# Altium footprint library OffTheClock.PcbLib: 26 footprints (part 1 of 2)
Each footprint in its own frame and in the unit in brackets; x right, y up, seen from the top. Pads: shape width x height; smd on the part's side, far side on the other; paste and mask are expansions set on the pad; w line width, h text height; cw(c..) or ccw(c..) is an arc to the next point about the centre after c.
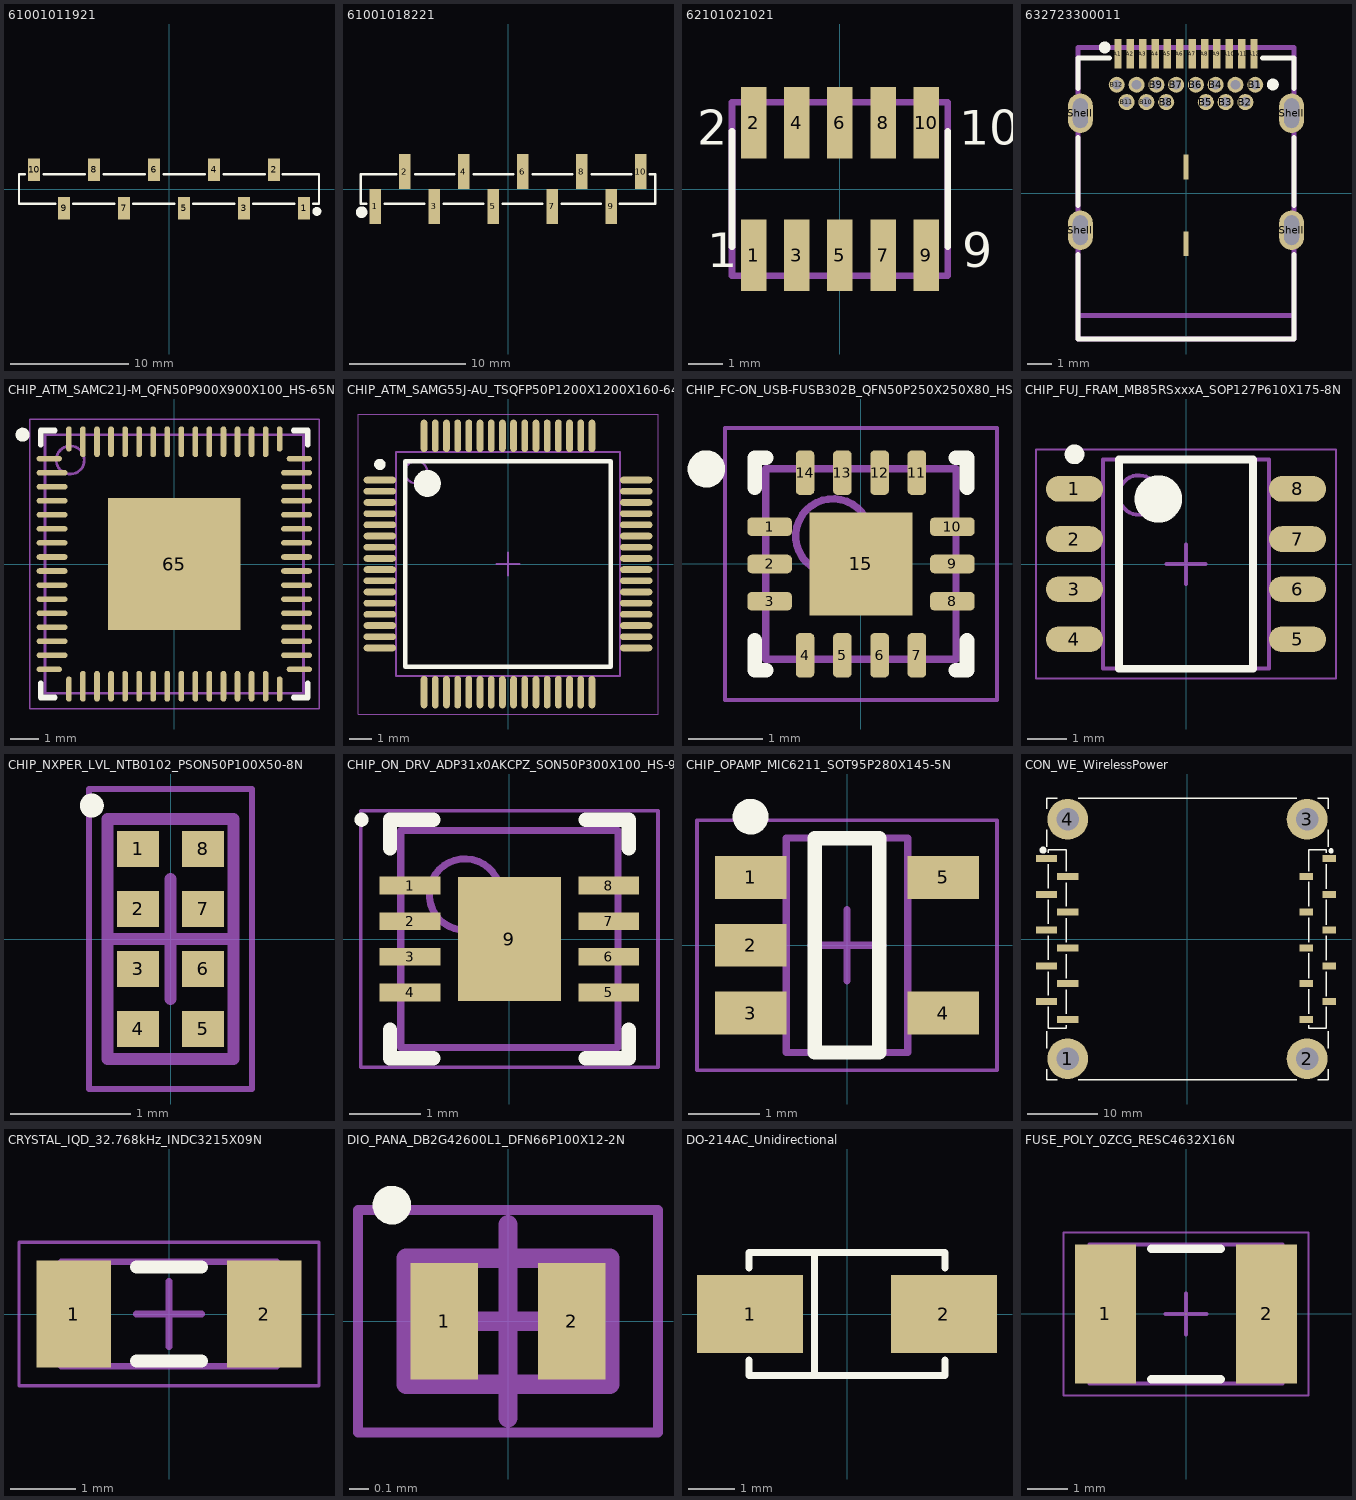
[diagram p0: the footprints below, top view; thin cyan lines are the x and y axes]

## 61001011921 [mm] "10 pins, 1 row, straight, Type 1, gold plating"
height 7.5
pads (10):
  rect 1x1.91 smd: 1(11.43,-1.645) 2(8.89,1.645) 3(6.35,-1.645) 4(3.81,1.645) 5(1.27,-1.645) 6(-1.27,1.645) 7(-3.81,-1.645) 8(-6.35,1.645) 9(-8.89,-1.645) 10(-11.43,1.645)
Top Overlay:
  circle w0.5: c12.52,-1.9 r0.122
  lines w0.2: -12.22,1.25 -12.7,1.25 -12.7,-1.25 -9.62,-1.25 ; -10.62,1.25 -7.12,1.25 ; -8.12,-1.25 -4.62,-1.25 ; -5.54,1.25 -2.04,1.25 ; -3.04,-1.25 0.46,-1.25 ; -0.46,1.25 3.04,1.25 ; 2.04,-1.25 5.54,-1.25 ; 4.62,1.25 8.12,1.25 ; 7.12,-1.25 10.62,-1.25 ; 9.62,1.25 12.7,1.25 12.7,-1.25 12.22,-1.25
3D body "61001011921.stp": height 7.46, standoff -0.04, extent -12.95,-2.025 12.95,2.025

## 61001018221 [mm] "SMT, 10 pins, 1 row, straight, Type 1, gold plating"
height 8.54
pads (10):
  rect 1x3 smd: 1(-11.43,-1.5) 2(-8.89,1.5) 3(-6.35,-1.5) 4(-3.81,1.5) 5(-1.27,-1.5) 6(1.27,1.5) 7(3.81,-1.5) 8(6.35,1.5) 9(8.89,-1.5) 10(11.43,1.5)
Top Overlay:
  circle w0.6: c-12.62,-2 r0.2
  lines w0.2: -12.22,-1.27 -12.7,-1.27 -12.7,1.27 -9.62,1.27 ; -10.62,-1.27 -7.22,-1.27 ; -8.02,1.27 -4.62,1.27 ; -5.54,-1.27 -2.14,-1.27 ; -2.94,1.27 0.46,1.27 ; -0.46,-1.27 2.94,-1.27 ; 2.14,1.27 5.54,1.27 ; 4.62,-1.27 8.02,-1.27 ; 7.22,1.27 10.62,1.27 ; 9.62,-1.27 12.7,-1.27 12.7,1.27 12.22,1.27
3D body "61001018221.stp": height 9.29, standoff -0.04, extent -12.7,-2.5 12.7,2.5

## 62101021021 [mm] "SMD Dual Pin Header, H=3.80mm, 10p"
height 5.9
pads (10):
  rect 0.75x2.1 smd: 1(-2.54,-1.95) 2(-2.54,1.95) 3(-1.27,-1.95) 4(-1.27,1.95) 5(0,-1.95) 6(0,1.95) 7(1.27,-1.95) 8(1.27,1.95) 9(2.54,-1.95) 10(2.54,1.95)
Top Overlay:
  lines w0.2: -3.175,-1.7 -3.175,1.7 ; 3.175,-1.7 3.175,1.7
  text "10" at 3.505,1.3 h1.02
  text "9" at 3.605,-2.3 h1.02
  text "2" at -4.205,1.3 h1.02
  text "1" at -3.905,-2.3 h1.02
Mechanical 13:
  lines w0.2: -3.175,-2.55 3.175,-2.55 3.175,2.55 -3.175,2.55 -3.175,-2.55
3D body "62101021021.stp": height 5.9, standoff -0.01, extent -3.175,-2.55 3.175,2.45

## 632723300011 [mm] "USB 3.1 Type C Receptacle Horizontal THR"
height 2.96
pads (32):
  rect 0.3x1.2 smd: A1(-2.75,5.635) A2(-2.25,5.635) A3(-1.75,5.635) A4(-1.25,5.635) A5(-0.75,5.635) A6(-0.25,5.635) A7(0.25,5.635) A8(0.75,5.635) A9(1.25,5.635) A10(1.75,5.635) A11(2.25,5.635) A12(2.75,5.635)
  round 0.65 hole 0.4: B1(2.8,4.385) B2(2.4,3.685) B3(1.6,3.685) B4(1.2,4.385) B5(0.8,3.685) B6(0.4,4.385) B7(-0.4,4.385) B8(-0.8,3.685) B9(-1.2,4.385) B10(-1.6,3.685) B11(-2.4,3.685) B12(-2.8,4.385) Shell(-2,4.385) Shell(2,4.385)
  oval 1x1.6 hole 0.6 slot 1.2 at 90 deg: Shell(-4.27,-1.495) Shell(-4.27,3.235) Shell(4.27,-1.495) Shell(4.27,3.235)
  rect 0.2x1 smd: ""(0,-2.045) ""(0,1.055)
Top Overlay:
  circle w0.25: c3.512,4.395 r0.114
  circle w0.25: c-3.288,5.895 r0.114
  lines w0.2: -4.37,-2.485 -4.37,-5.895 4.37,-5.895 4.37,-2.485 ; -4.37,-0.495 -4.37,2.245 ; -4.37,4.225 -4.37,5.465 -3.1,5.465 ; 3.1,5.465 4.37,5.465 4.37,4.225 ; 4.37,-0.495 4.37,2.245
Mechanical 13:
  lines w0.2: -4.37,-5.895 -4.37,5.895 4.37,5.895 4.37,-5.895 -4.37,-5.895
Mechanical 15:
  lines w0.2: -4.37,-4.945 4.37,-4.945
3D body "632723300011.stp": height 3.05, standoff -1.81, extent -4.37,-5.895 4.37,5.899

## CHIP_ATM_SAMC21J-M_QFN50P900X900X100_HS-65N [mm] "QFN, 64-Leads, Body 9.00x9.00mm, Pitch 0.50mm, Thermal Pad 4.70x4.70mm, IPC Medium Density"
height 1
pads (65):
  oval 0.9x0.2 smd: 1(-4.45,3.75) 16(-4.45,-3.75) 33(4.45,-3.75) 48(4.45,3.75)
  oval 1.1x0.2 smd: 2(-4.35,3.25) 3(-4.35,2.75) 4(-4.35,2.25) 5(-4.35,1.75) 6(-4.35,1.25) 7(-4.35,0.75) 8(-4.35,0.25) 9(-4.35,-0.25) 10(-4.35,-0.75) 11(-4.35,-1.25) 12(-4.35,-1.75) 13(-4.35,-2.25) 14(-4.35,-2.75) 15(-4.35,-3.25) 34(4.35,-3.25) 35(4.35,-2.75) 36(4.35,-2.25) 37(4.35,-1.75) 38(4.35,-1.25) 39(4.35,-0.75) 40(4.35,-0.25) 41(4.35,0.25) 42(4.35,0.75) 43(4.35,1.25) 44(4.35,1.75) 45(4.35,2.25) 46(4.35,2.75) 47(4.35,3.25)
  oval 0.2x0.9 smd: 17(-3.75,-4.45) 32(3.75,-4.45) 49(3.75,4.45) 64(-3.75,4.45)
  oval 0.2x1.1 smd: 18(-3.25,-4.35) 19(-2.75,-4.35) 20(-2.25,-4.35) 21(-1.75,-4.35) 22(-1.25,-4.35) 23(-0.75,-4.35) 24(-0.25,-4.35) 25(0.25,-4.35) 26(0.75,-4.35) 27(1.25,-4.35) 28(1.75,-4.35) 29(2.25,-4.35) 30(2.75,-4.35) 31(3.25,-4.35) 50(3.25,4.35) 51(2.75,4.35) 52(2.25,4.35) 53(1.75,4.35) 54(1.25,4.35) 55(0.75,4.35) 56(0.25,4.35) 57(-0.25,4.35) 58(-0.75,4.35) 59(-1.25,4.35) 60(-1.75,4.35) 61(-2.25,4.35) 62(-2.75,4.35) 63(-3.25,4.35)
  rect 4.7x4.7 smd: 65(0,0)
Top Overlay:
  circle w0.25: c-5.4,4.6 r0.125
  lines w0.2: -4.75,-4.25 -4.75,-4.75 -4.25,-4.75 ; -4.75,4.25 -4.75,4.75 -4.25,4.75 ; 4.25,-4.75 4.75,-4.75 4.75,-4.25 ; 4.25,4.75 4.75,4.75 4.75,4.25
Mechanical 13:
  circle w0.1: c-3.7,3.7 r0.5
  lines w0.1: -4.6,-4.6 4.6,-4.6 4.6,4.6 -4.6,4.6 -4.6,-4.6
Mechanical 15:
  lines w0.05: -5.15,-5.15 5.15,-5.15 5.15,5.15 -5.15,5.15 -5.15,-5.15
  lines w0.1: -0.5,0 0.5,0 ; 0,-0.5 0,0.5
3D body: height 1, standoff 0.01, extent -4.6,-4.6 4.6,4.6

## CHIP_ATM_SAMG55J-AU_TSQFP50P1200X1200X160-64N [mm] "TSQFP, 64-Leads, Body 10.00x10.00mm, Pitch 0.50mm, IPC Medium Density"
height 1.6
pads (64):
  oval 1.45x0.3 smd: 1(-5.725,3.75) 2(-5.725,3.25) 3(-5.725,2.75) 4(-5.725,2.25) 5(-5.725,1.75) 6(-5.725,1.25) 7(-5.725,0.75) 8(-5.725,0.25) 9(-5.725,-0.25) 10(-5.725,-0.75) 11(-5.725,-1.25) 12(-5.725,-1.75) 13(-5.725,-2.25) 14(-5.725,-2.75) 15(-5.725,-3.25) 16(-5.725,-3.75) 33(5.725,-3.75) 34(5.725,-3.25) 35(5.725,-2.75) 36(5.725,-2.25) 37(5.725,-1.75) 38(5.725,-1.25) 39(5.725,-0.75) 40(5.725,-0.25) 41(5.725,0.25) 42(5.725,0.75) 43(5.725,1.25) 44(5.725,1.75) 45(5.725,2.25) 46(5.725,2.75) 47(5.725,3.25) 48(5.725,3.75)
  oval 0.3x1.45 smd: 17(-3.75,-5.725) 18(-3.25,-5.725) 19(-2.75,-5.725) 20(-2.25,-5.725) 21(-1.75,-5.725) 22(-1.25,-5.725) 23(-0.75,-5.725) 24(-0.25,-5.725) 25(0.25,-5.725) 26(0.75,-5.725) 27(1.25,-5.725) 28(1.75,-5.725) 29(2.25,-5.725) 30(2.75,-5.725) 31(3.25,-5.725) 32(3.75,-5.725) 49(3.75,5.725) 50(3.25,5.725) 51(2.75,5.725) 52(2.25,5.725) 53(1.75,5.725) 54(1.25,5.725) 55(0.75,5.725) 56(0.25,5.725) 57(-0.25,5.725) 58(-0.75,5.725) 59(-1.25,5.725) 60(-1.75,5.725) 61(-2.25,5.725) 62(-2.75,5.725) 63(-3.25,5.725) 64(-3.75,5.725)
Top Overlay:
  circle w0.6: c-3.6,3.6 r0.3
  circle w0.25: c-5.725,4.45 r0.125
  lines w0.2: -4.6,-4.6 4.6,-4.6 4.6,4.6 -4.6,4.6 -4.6,-4.6
Mechanical 13:
  circle w0.1: c-4.1,4.1 r0.5
  lines w0.1: -5,-5 5,-5 5,5 -5,5 -5,-5
Mechanical 15:
  lines w0.05: -6.7,-6.7 6.7,-6.7 6.7,6.7 -6.7,6.7 -6.7,-6.7
  lines w0.1: -0.5,0 0.5,0 ; 0,-0.5 0,0.5
3D body: height 1.6, standoff 0.05, extent -5,-5 5,5

## CHIP_FC-ON_USB-FUSB302B_QFN50P250X250X80_HS-15N [mm] "QFN, 14-Leads, Body 2.50x2.50mm, Pitch 0.50mm, Thermal Pad 1.38x1.38mm, IPC Medium Density"
height 0.8
pads (15):
  rrect50% 0.6x0.25 smd: 1(-1.225,0.5) 2(-1.225,0) 3(-1.225,-0.5) 8(1.225,-0.5) 9(1.225,0) 10(1.225,0.5)
  rrect50% 0.25x0.6 smd: 4(-0.75,-1.225) 5(-0.25,-1.225) 6(0.25,-1.225) 7(0.75,-1.225) 11(0.75,1.225) 12(0.25,1.225) 13(-0.25,1.225) 14(-0.75,1.225)
  rect 1.38x1.38 smd: 15(0,0)
Top Overlay:
  circle w0.25: c-2.075,1.275 r0.125
  lines w0.2: -1.425,-1.025 -1.425,-1.425 -1.275,-1.425 ; -1.425,1.025 -1.425,1.425 -1.275,1.425 ; 1.275,-1.425 1.425,-1.425 1.425,-1.025 ; 1.275,1.425 1.425,1.425 1.425,1.025
Mechanical 13:
  circle w0.1: c-0.375,0.375 r0.5
  lines w0.1: -1.275,-1.275 -1.275,1.275 1.275,1.275 1.275,-1.275 -1.275,-1.275
Mechanical 15:
  lines w0.05: -1.825,-1.825 -1.825,1.825 1.825,1.825 1.825,-1.825 -1.825,-1.825
  lines w0.1: -0.5,0 0.5,0 ; 0,-0.5 0,0.5
3D body: height 0.8, standoff 0.01, extent -1.275,-1.275 1.275,1.275

## CHIP_FUJ_FRAM_MB85RSxxxA_SOP127P610X175-8N [mm] "SOP, 8-Leads, Body 5.07x3.95mm, Pitch 1.27mm, IPC Medium Density"
height 1.75
pads (8):
  oval 1.45x0.65 smd: 1(-2.825,1.905) 2(-2.825,0.635) 3(-2.825,-0.635) 4(-2.825,-1.905) 5(2.825,-1.905) 6(2.825,-0.635) 7(2.825,0.635) 8(2.825,1.905)
Top Overlay:
  circle w0.6: c-0.7,1.65 r0.3
  circle w0.25: c-2.825,2.78 r0.125
  lines w0.2: -1.7,-2.65 1.7,-2.65 1.7,2.65 -1.7,2.65 -1.7,-2.65
Mechanical 13:
  circle w0.1: c-1.2,1.75 r0.5
  lines w0.1: -2.1,-2.65 2.1,-2.65 2.1,2.65 -2.1,2.65 -2.1,-2.65
Mechanical 15:
  lines w0.05: -3.8,-2.9 3.8,-2.9 3.8,2.9 -3.8,2.9 -3.8,-2.9
  lines w0.1: -0.5,0 0.5,0 ; 0,-0.5 0,0.5
3D body: height 1.75, standoff 0.1, extent -2.1,-2.65 2.1,2.65

## CHIP_NXPER_LVL_NTB0102_PSON50P100X50-8N [mm] "PSON, 8-Leads, Body 1.95x1.00mm, Pitch 0.50mm, IPC Medium Density"
height 0.5
pads (8):
  rect 0.35x0.3 smd: 1(-0.27,0.75) 2(-0.27,0.25) 3(-0.27,-0.25) 4(-0.27,-0.75) 5(0.27,-0.75) 6(0.27,-0.25) 7(0.27,0.25) 8(0.27,0.75)
Top Overlay:
  circle w0.1: c-0.657,1.112 r0.05
Mechanical 13:
  lines w0.1: -0.525,-1 0.525,-1 0.525,1 -0.525,1 -0.525,-1
Mechanical 15:
  lines w0.05: -0.68,-1.25 0.68,-1.25 0.68,1.25 -0.68,1.25 -0.68,-1.25
  lines w0.1: -0.5,0 0.5,0 ; 0,-0.5 0,0.5
3D body: height 0.5, standoff 0.03, extent -0.525,-1 0.525,1

## CHIP_ON_DRV_ADP31x0AKCPZ_SON50P300X100_HS-9N [mm] "SON, 8-Leads, Body 3.00x3.00mm, Pitch 0.50mm, Thermal Pad 1.74x1.45mm, IPC Medium Density"
height 1
pads (9):
  rect 0.85x0.25 smd: 1(-1.395,0.75) 2(-1.395,0.25) 3(-1.395,-0.25) 4(-1.395,-0.75) 5(1.395,-0.75) 6(1.395,-0.25) 7(1.395,0.25) 8(1.395,0.75)
  rect 1.45x1.74 smd: 9(0,0)
Top Overlay:
  circle w0.1: c-2.075,1.675 r0.05
  lines w0.2: -1.675,-1.275 -1.675,-1.675 -1.07,-1.675 ; -1.675,1.275 -1.675,1.675 -1.07,1.675 ; 1.07,-1.675 1.675,-1.675 1.675,-1.275 ; 1.07,1.675 1.675,1.675 1.675,1.275
Mechanical 13:
  circle w0.1: c-0.625,0.625 r0.5
  lines w0.1: -1.525,-1.525 -1.525,1.525 1.525,1.525 1.525,-1.525 -1.525,-1.525
Mechanical 15:
  lines w0.05: -2.085,-1.8 -2.085,1.8 2.085,1.8 2.085,-1.8 -2.085,-1.8
  lines w0.1: -0.5,0 0.5,0 ; 0,-0.5 0,0.5
3D body: height 1, standoff 0.01, extent -1.525,-1.525 1.525,1.525

## CHIP_OPAMP_MIC6211_SOT95P280X145-5N [mm] "SOT23, 5-Leads, Body 2.90x2.80mm, Pitch 0.95mm, IPC Medium Density"
height 1.45
pads (5):
  rect 1x0.6 smd: 1(-1.35,0.95) 2(-1.35,0) 3(-1.35,-0.95) 4(1.35,-0.95) 5(1.35,0.95)
Top Overlay:
  circle w0.25: c-1.35,1.8 r0.125
  lines w0.2: -0.45,-1.5 0.45,-1.5 0.45,1.5 -0.45,1.5 -0.45,-1.5
Mechanical 13:
  lines w0.1: -0.85,-1.5 -0.85,1.5 0.85,1.5 0.85,-1.5 -0.85,-1.5
Mechanical 15:
  lines w0.05: -2.1,-1.75 -2.1,1.75 2.1,1.75 2.1,-1.75 -2.1,-1.75
  lines w0.1: -0.5,0 0.5,0 ; 0,-0.5 0,0.5
3D body: height 1.45, standoff 0.15, extent -0.85,-1.5 0.85,1.5

## CON_WE_WirelessPower [mm] "Wurth Elektronik Wireless Power Footprint"
height 22
pads (24):
  rect 3x1 smd: 1(-20,11.43) 2(-17,8.89) 3(-20,6.35) 4(-17,3.81) 5(-20,1.27) 6(-17,-1.27) 7(-20,-3.81) 8(-17,-6.35) 9(-20,-8.89) 10(-17,-11.43)
  round 5.8 hole 3.2: 1(-17,-17) 2(17,-17) 3(17,17) 4(-17,17)
  rect 1.91x1 smd: 11(20.145,11.43) 12(16.855,8.89) 13(20.145,6.35) 14(16.855,3.81) 15(20.145,1.27) 16(16.855,-1.27) 17(20.145,-3.81) 18(16.855,-6.35) 19(20.145,-8.89) 20(16.855,-11.43)
Top Overlay:
  circle w0.6: c-20.5,12.62 r0.2
  circle w0.5: c20.4,12.52 r0.122
  lines w0.2: -20,-18.5 -20,-20 -18.5,-20 ; -20,-15.5 -20,-13.1 ; -20,13.1 -20,15.5 ; -20,18.5 -20,20 -18.5,20 ; -19.77,-9.62 -19.77,-12.7 -17.23,-12.7 -17.23,-12.22 ; -19.77,-8.02 -19.77,-4.62 ; -19.77,-2.94 -19.77,0.46 ; -19.77,2.14 -19.77,5.54 ; -19.77,7.22 -19.77,10.62 ; -19.77,12.22 -19.77,12.7 -17.23,12.7 -17.23,9.62 ; -17.23,-10.62 -17.23,-7.22 ; -17.23,-5.54 -17.23,-2.14 ; -17.23,-0.46 -17.23,2.94 ; -17.23,4.62 -17.23,8.02 ; -15.5,-20 15.5,-20 ; -15.5,20 15.5,20 ; 17.25,-12.22 17.25,-12.7 19.75,-12.7 19.75,-9.62 ; 17.25,-10.62 17.25,-7.12 ; 17.25,-5.54 17.25,-2.04 ; 17.25,-0.46 17.25,3.04 ; 17.25,4.62 17.25,8.12 ; 17.25,9.62 17.25,12.7 19.75,12.7 19.75,12.22 ; 18.5,-20 20,-20 20,-18.5 ; 18.5,20 20,20 20,18.5 ; 19.75,-8.12 19.75,-4.62 ; 19.75,-3.04 19.75,0.46 ; 19.75,2.04 19.75,5.54 ; 19.75,7.12 19.75,10.62 ; 20,-15.5 20,-13.1 ; 20,13.1 20,15.5
3D body "61001018221.stp": height 9.29, standoff -0.04, extent -21,-12.7 -16,12.7
3D body "61001011921.stp": height 7.46, standoff -0.04, extent 16.475,-12.95 20.525,12.95
3D body: height 25, standoff 24.5, extent 5.5,-17 17,17
3D body: height 25, standoff 24.5, extent -17,-17 17,-5.5
3D body: height 25, standoff 24.5, extent -17,-17 -5.5,17
3D body: height 25, standoff 24.5, extent -17,5.5 17,17
3D body: height 24.5, standoff 24, extent -20,-20 20,20
3D body: height 13, standoff 12, extent -20,-20 20,20
3D body: height 26, standoff 23, extent 21,-25 25,25
3D body: height 26, standoff 23, extent -25,-25 -21,25
3D body: height 23, standoff 13, extent -25,-25 25,25

## CRYSTAL_IQD_32.768kHz_INDC3215X09N [mm] "Chip Inductor, 2-Leads, Body 3.20x1.50mm, IPC Medium Density"
height 0.9
pads (2):
  rect 1.14x1.64 smd: 1(-1.46,0) 2(1.46,0)
Top Overlay:
  lines w0.2: -0.5,-0.72 0.5,-0.72 ; -0.5,0.72 0.5,0.72
Mechanical 13:
  lines w0.1: -1.65,-0.8 -1.65,0.8 1.65,0.8 1.65,-0.8 -1.65,-0.8
Mechanical 15:
  lines w0.05: -2.3,-1.1 -2.3,1.1 2.3,1.1 2.3,-1.1 -2.3,-1.1
  lines w0.1: -0.5,0 0.5,0 ; 0,-0.5 0,0.5
3D body: height 0.9, standoff 0, extent -1.02,-0.8 1.02,0.8
3D body: height 0.9, standoff 0, extent -1.65,-0.8 -1.02,0.8
3D body: height 0.9, standoff 0, extent 1.02,-0.8 1.65,0.8

## DIO_PANA_DB2G42600L1_DFN66P100X12-2N [mm] "DFN, 2-Leads, Body 0.60x1.00mm, Pitch 0.66mm, IPC Medium Density"
height 0.13
pads (2):
  rect 0.35x0.6 smd: 1(-0.33,0) 2(0.33,0)
Top Overlay:
  circle w0.1: c-0.6,0.6 r0.05
Mechanical 13:
  lines w0.1: -0.525,-0.325 -0.525,0.325 0.525,0.325 0.525,-0.325 -0.525,-0.325
Mechanical 15:
  lines w0.05: -0.775,-0.575 -0.775,0.575 0.775,0.575 0.775,-0.575 -0.775,-0.575
  lines w0.1: -0.5,0 0.5,0 ; 0,-0.5 0,0.5
3D body: height 0.13, standoff 0, extent -0.525,-0.325 0.525,0.325

## DO-214AC_Unidirectional [mm] "WE-TVSP Power TVS Diode, DO-214AC, Unidirectional"
height 2.25
pads (2):
  rect 2.3x1.7 smd: 1(-2.1,0) 2(2.1,0)
Top Overlay:
  lines w0.152: -2.12,-1 -2.12,-1.335 2.12,-1.335 2.12,-1 ; -2.12,1 -2.12,1.335 2.12,1.335 2.12,1 ; -0.7,-1.335 -0.7,1.335
3D body "DO-214AC_Unidirectional.stp": height 2.25, standoff 0.01, extent -2.555,-1.335 2.555,1.335

## FUSE_POLY_0ZCG_RESC4632X16N [mm] "Chip Resistor, 2-Leads, Body 4.55x3.24mm, IPC Medium Density"
height 1.55
pads (2):
  rect 1.5x3.4 smd: 1(-1.975,0) 2(1.975,0)
Top Overlay:
  lines w0.2: -0.85,-1.6 0.85,-1.6 ; -0.85,1.6 0.85,1.6
Mechanical 13:
  lines w0.1: -2.365,-1.705 2.365,-1.705 2.365,1.705 -2.365,1.705 -2.365,-1.705
Mechanical 15:
  lines w0.05: -3,-2 3,-2 3,2 -3,2 -3,-2
  lines w0.1: -0.5,0 0.5,0 ; 0,-0.5 0,0.5
3D body: height 1.55, standoff 0, extent 1.765,-1.705 2.365,1.705
3D body: height 1.55, standoff 0, extent -2.365,-1.705 -1.765,1.705
3D body: height 1.55, standoff 0, extent -1.765,-1.705 1.765,1.705